# Altium footprint library WANGYU92100PcbLib.PcbLib: 392 footprints (part 10 of 25)
Each footprint in its own frame and in the unit in brackets; x right, y up, seen from the top. Pads: shape width x height; smd on the part's side, far side on the other; paste and mask are expansions set on the pad; w line width, h text height; cw(c..) or ccw(c..) is an arc to the next point about the centre after c.
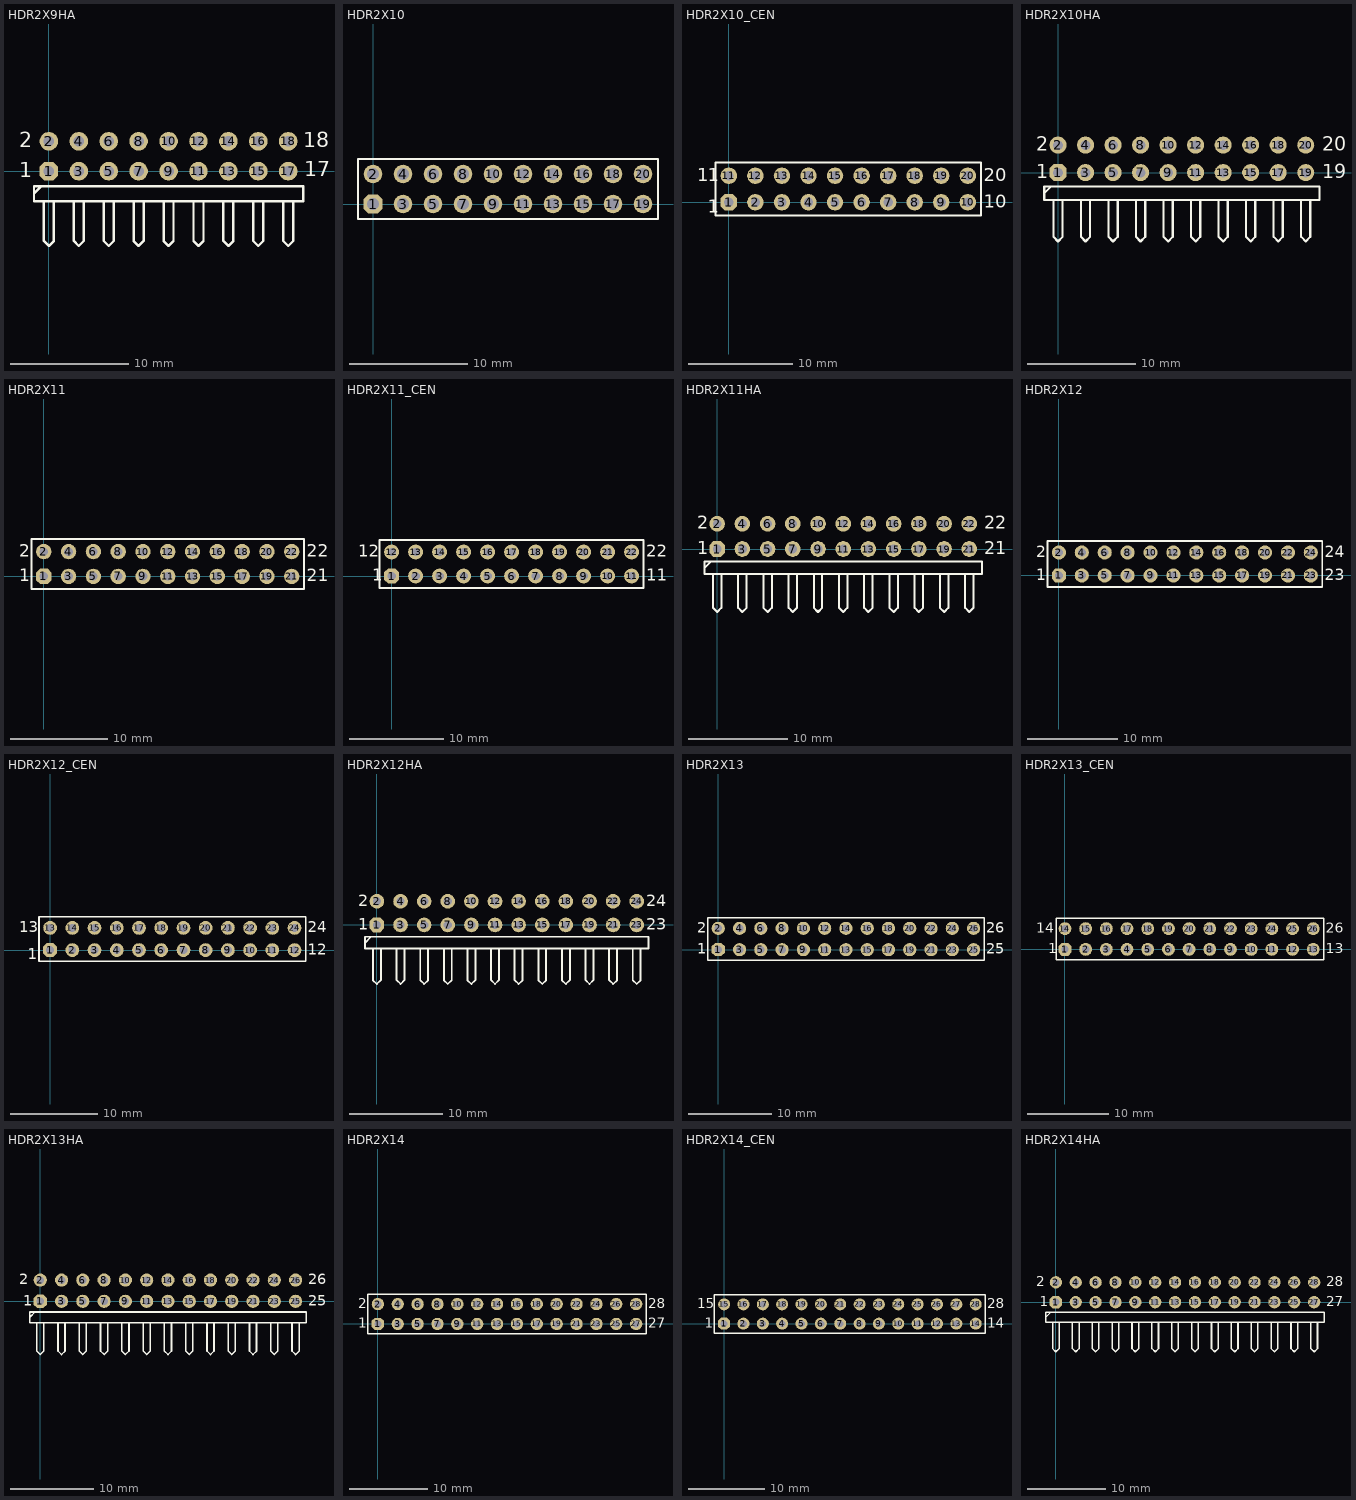
[diagram p9: the footprints below, top view; thin cyan lines are the x and y axes]

## HDR2X9HA [mil]
pads (18):
  oct 62x62 hole 35: 1(0,0)
  round 62 hole 35: 2(0,100) 3(100,0) 4(100,100) 5(200,0) 6(200,100) 7(300,0) 8(300,100) 9(400,0) 10(400,100) 11(500,0) 12(500,100) 13(600,0) 14(600,100) 15(700,0) 16(700,100) 17(800,0) 18(800,100)
Top Overlay:
  lines w8: -50,-75 -25,-50 ; -16.67,-100 -16.67,-233.33 0,-250 16.67,-233.33 16.67,-100 ; 83.33,-100 83.33,-233.33 100,-250 116.67,-233.33 116.67,-100 ; 183.33,-100 183.33,-233.33 200,-250 216.67,-233.33 216.67,-100 ; 283.33,-100 283.33,-233.33 300,-250 316.67,-233.33 316.67,-100 ; 383.33,-100 383.33,-233.33 400,-250 416.67,-233.33 416.67,-100 ; 483.33,-100 483.33,-233.33 500,-250 516.67,-233.33 516.67,-100 ; 583.33,-100 583.33,-233.33 600,-250 616.67,-233.33 616.67,-100 ; 683.33,-100 683.33,-233.33 700,-250 716.67,-233.33 716.67,-100 ; 783.33,-100 783.33,-233.33 800,-250 816.67,-233.33 816.67,-100 ; -50,-100 -50,-50 850,-50 850,-100 -50,-100
  text "1" at -100,-20 h50
  text "17" at 852.91,-17.31 h50
  text "18" at 850.11,80 h50
  text "2" at -100,80 h50

## HDR2X10 [mil]
pads (20):
  oct 62x62 hole 40: 1(0,0)
  round 62 hole 40: 2(0,100) 3(100,0) 4(100,100) 5(200,0) 6(200,100) 7(300,0) 8(300,100) 9(400,0) 10(400,100) 11(500,0) 12(500,100) 13(600,0) 14(600,100) 15(700,0) 16(700,100) 17(800,0) 18(800,100) 19(900,0) 20(900,100)
Top Overlay:
  lines w8: -50,-50 -50,150 25,150 950,150 950,-50 25,-50 -50,-50

## HDR2X10_CEN [mil]
pads (20):
  oct 62x62 hole 35: 1(0,0)
  round 62 hole 35: 2(100,0) 3(200,0) 4(300,0) 5(400,0) 6(500,0) 7(600,0) 8(700,0) 9(800,0) 10(900,0) 11(0,100) 12(100,100) 13(200,100) 14(300,100) 15(400,100) 16(500,100) 17(600,100) 18(700,100) 19(800,100) 20(900,100)
Top Overlay:
  lines w8: -50,-50 -50,150 950,150 950,-50 -50,-50
  text "20" at 960,80 h50
  text "10" at 960,-20 h50
  text "1" at -80,80 h50
  text "1" at -120,80 h50
  text "1" at -80,-40 h50

## HDR2X10HA [mil]
pads (20):
  oct 62x62 hole 35: 1(0,0)
  round 62 hole 35: 2(0,100) 3(100,0) 4(100,100) 5(200,0) 6(200,100) 7(300,0) 8(300,100) 9(400,0) 10(400,100) 11(500,0) 12(500,100) 13(600,0) 14(600,100) 15(700,0) 16(700,100) 17(800,0) 18(800,100) 19(900,0) 20(900,100)
Top Overlay:
  lines w8: -50,-75 -25,-50 ; -16.67,-100 -16.67,-233.33 0,-250 16.67,-233.33 16.67,-100 ; 83.33,-100 83.33,-233.33 100,-250 116.67,-233.33 116.67,-100 ; 183.33,-100 183.33,-233.33 200,-250 216.67,-233.33 216.67,-100 ; 283.33,-100 283.33,-233.33 300,-250 316.67,-233.33 316.67,-100 ; 383.33,-100 383.33,-233.33 400,-250 416.67,-233.33 416.67,-100 ; 483.33,-100 483.33,-233.33 500,-250 516.67,-233.33 516.67,-100 ; 583.33,-100 583.33,-233.33 600,-250 616.67,-233.33 616.67,-100 ; 683.33,-100 683.33,-233.33 700,-250 716.67,-233.33 716.67,-100 ; 783.33,-100 783.33,-233.33 800,-250 816.67,-233.33 816.67,-100 ; 883.33,-100 883.33,-233.33 900,-250 916.67,-233.33 916.67,-100 ; -50,-100 -50,-50 950,-50 950,-100 -50,-100
  text "1" at -80,-20 h50
  text "2" at -80,80 h50
  text "19" at 960,-20 h50
  text "20" at 960,80 h50

## HDR2X11 [mil]
pads (22):
  oct 62x62 hole 35: 1(0,0)
  round 62 hole 35: 2(0,100) 3(100,0) 4(100,100) 5(200,0) 6(200,100) 7(300,0) 8(300,100) 9(400,0) 10(400,100) 11(500,0) 12(500,100) 13(600,0) 14(600,100) 15(700,0) 16(700,100) 17(800,0) 18(800,100) 19(900,0) 20(900,100) 21(1000,0) 22(1000,100)
Top Overlay:
  lines w8: -50,-50 -50,150 1050,150 1050,-50 -50,-50
  text "1" at -100,-20 h50
  text "2" at -100,80 h50
  text "21" at 1060,-20 h50
  text "22" at 1060,80 h50

## HDR2X11_CEN [mil]
pads (22):
  oct 62x62 hole 35: 1(0,0)
  round 62 hole 35: 2(100,0) 3(200,0) 4(300,0) 5(400,0) 6(500,0) 7(600,0) 8(700,0) 9(800,0) 10(900,0) 11(1000,0) 12(0,100) 13(100,100) 14(200,100) 15(300,100) 16(400,100) 17(500,100) 18(600,100) 19(700,100) 20(800,100) 21(900,100) 22(1000,100)
Top Overlay:
  lines w8: -50,-50 -50,150 1050,150 1050,-50 -50,-50
  text "1" at -80,-20 h50
  text "12" at -140,80 h50
  text "11" at 1060,-20 h50
  text "22" at 1060,80 h50

## HDR2X11HA [mil]
pads (22):
  oct 62x62 hole 35: 1(0,0)
  round 62 hole 35: 2(0,100) 3(100,0) 4(100,100) 5(200,0) 6(200,100) 7(300,0) 8(300,100) 9(400,0) 10(400,100) 11(500,0) 12(500,100) 13(600,0) 14(600,100) 15(700,0) 16(700,100) 17(800,0) 18(800,100) 19(900,0) 20(900,100) 21(1000,0) 22(1000,100)
Top Overlay:
  lines w8: -50,-75 -25,-50 ; -16.67,-100 -16.67,-233.33 0,-250 16.67,-233.33 16.67,-100 ; 83.33,-100 83.33,-233.33 100,-250 116.67,-233.33 116.67,-100 ; 183.33,-100 183.33,-233.33 200,-250 216.67,-233.33 216.67,-100 ; 283.33,-100 283.33,-233.33 300,-250 316.67,-233.33 316.67,-100 ; 383.33,-100 383.33,-233.33 400,-250 416.67,-233.33 416.67,-100 ; 483.33,-100 483.33,-233.33 500,-250 516.67,-233.33 516.67,-100 ; 583.33,-100 583.33,-233.33 600,-250 616.67,-233.33 616.67,-100 ; 683.33,-100 683.33,-233.33 700,-250 716.67,-233.33 716.67,-100 ; 783.33,-100 783.33,-233.33 800,-250 816.67,-233.33 816.67,-100 ; 883.33,-100 883.33,-233.33 900,-250 916.67,-233.33 916.67,-100 ; 983.33,-100 983.33,-233.33 1000,-250 1016.67,-233.33 1016.67,-100 ; -50,-100 1050,-100 1050,-50 -50,-50 -50,-100
  text "2" at -80,80 h50
  text "1" at -80,-20 h50
  text "21" at 1060,-20 h50
  text "22" at 1060,80 h50

## HDR2X12 [mil]
pads (24):
  oct 62x62 hole 35: 1(0,0)
  round 62 hole 35: 2(0,100) 3(100,0) 4(100,100) 5(200,0) 6(200,100) 7(300,0) 8(300,100) 9(400,0) 10(400,100) 11(500,0) 12(500,100) 13(600,0) 14(600,100) 15(700,0) 16(700,100) 17(800,0) 18(800,100) 19(900,0) 20(900,100) 21(1000,0) 22(1000,100) 23(1100,0) 24(1100,100)
Top Overlay:
  lines w8: -50,-50 1150,-50 1150,150 -50,150 -50,-50
  text "24" at 1160,80 h50
  text "23" at 1160,-20 h50
  text "2" at -100,80 h50
  text "1" at -100,-20 h50

## HDR2X12_CEN [mil]
pads (24):
  oct 62x62 hole 35: 1(0,0)
  round 62 hole 35: 2(100,0) 3(200,0) 4(300,0) 5(400,0) 6(500,0) 7(600,0) 8(700,0) 9(800,0) 10(900,0) 11(1000,0) 12(1100,0) 13(0,100) 14(100,100) 15(200,100) 16(300,100) 17(400,100) 18(500,100) 19(600,100) 20(700,100) 21(800,100) 22(900,100) 23(1000,100) 24(1100,100)
Top Overlay:
  lines w8: -50,-50 -50,150 1150,150 1150,-50 -50,-50
  text "24" at 1160,80 h50
  text "12" at 1160,-20 h50
  text "13" at -140,80 h50
  text "1" at -100,-40 h50

## HDR2X12HA [mil]
pads (24):
  oct 62x62 hole 35: 1(0,0)
  round 62 hole 35: 2(0,100) 3(100,0) 4(100,100) 5(200,0) 6(200,100) 7(300,0) 8(300,100) 9(400,0) 10(400,100) 11(500,0) 12(500,100) 13(600,0) 14(600,100) 15(700,0) 16(700,100) 17(800,0) 18(800,100) 19(900,0) 20(900,100) 21(1000,0) 22(1000,100) 23(1100,0) 24(1100,100)
Top Overlay:
  lines w8: -50,-75 -25,-50 ; -16.67,-100 -16.67,-233.33 0,-250 16.67,-233.33 16.67,-100 ; 83.33,-100 83.33,-233.33 100,-250 116.67,-233.33 116.67,-100 ; 183.33,-100 183.33,-233.33 200,-250 216.67,-233.33 216.67,-100 ; 283.33,-100 283.33,-233.33 300,-250 316.67,-233.33 316.67,-100 ; 383.33,-100 383.33,-233.33 400,-250 416.67,-233.33 416.67,-100 ; 483.33,-100 483.33,-233.33 500,-250 516.67,-233.33 516.67,-100 ; 583.33,-100 583.33,-233.33 600,-250 616.67,-233.33 616.67,-100 ; 683.33,-100 683.33,-233.33 700,-250 716.67,-233.33 716.67,-100 ; 783.33,-100 783.33,-233.33 800,-250 816.67,-233.33 816.67,-100 ; 883.33,-100 883.33,-233.33 900,-250 916.67,-233.33 916.67,-100 ; 983.33,-100 983.33,-233.33 1000,-250 1016.67,-233.33 1016.67,-100 ; 1083.33,-100 1083.33,-233.33 1100,-250 1116.67,-233.33 1116.67,-100 ; -50,-100 1150,-100 1150,-50 -50,-50 -50,-100
  text "1" at -80,-20 h50
  text "2" at -80,80 h50
  text "23" at 1140,-20 h50
  text "24" at 1140,80 h50

## HDR2X13 [mil]
pads (26):
  oct 62x62 hole 35: 1(0,0)
  round 62 hole 35: 2(0,100) 3(100,0) 4(100,100) 5(200,0) 6(200,100) 7(300,0) 8(300,100) 9(400,0) 10(400,100) 11(500,0) 12(500,100) 13(600,0) 14(600,100) 15(700,0) 16(700,100) 17(800,0) 18(800,100) 19(900,0) 20(900,100) 21(1000,0) 22(1000,100) 23(1100,0) 24(1100,100) 25(1200,0) 26(1200,100)
Top Overlay:
  lines w8: -50,-50 -50,150 1250,150 1250,-50 -50,-50
  text "2" at -100,80 h50
  text "1" at -100,-20 h50
  text "25" at 1260,-20 h50
  text "26" at 1260,80 h50

## HDR2X13_CEN [mil]
pads (26):
  oct 62x62 hole 35: 1(0,0)
  round 62 hole 35: 2(100,0) 3(200,0) 4(300,0) 5(400,0) 6(500,0) 7(600,0) 8(700,0) 9(800,0) 10(900,0) 11(1000,0) 12(1100,0) 13(1200,0) 14(0,100) 15(100,100) 16(200,100) 17(300,100) 18(400,100) 19(500,100) 20(600,100) 21(700,100) 22(800,100) 23(900,100) 24(1000,100) 25(1100,100) 26(1200,100)
Top Overlay:
  lines w8: -41.67,-50 1250,-50 1250,150 -41.67,150 -41.67,-50
  text "1" at -80,-20 h50
  text "14" at -140,80 h50
  text "13" at 1260,-20 h50
  text "26" at 1260,80 h50

## HDR2X13HA [mil]
pads (26):
  oct 62x62 hole 35: 1(0,0)
  round 62 hole 35: 2(0,100) 3(100,0) 4(100,100) 5(200,0) 6(200,100) 7(300,0) 8(300,100) 9(400,0) 10(400,100) 11(500,0) 12(500,100) 13(600,0) 14(600,100) 15(700,0) 16(700,100) 17(800,0) 18(800,100) 19(900,0) 20(900,100) 21(1000,0) 22(1000,100) 23(1100,0) 24(1100,100) 25(1200,0) 26(1200,100)
Top Overlay:
  lines w8: -50,-75 -25,-50 ; -16.67,-100 -16.67,-233.33 0,-250 16.67,-233.33 16.67,-100 ; 83.33,-100 83.33,-233.33 100,-250 116.67,-233.33 116.67,-100 ; 183.33,-100 183.33,-233.33 200,-250 216.67,-233.33 216.67,-100 ; 283.33,-100 283.33,-233.33 300,-250 316.67,-233.33 316.67,-100 ; 383.33,-100 383.33,-233.33 400,-250 416.67,-233.33 416.67,-100 ; 483.33,-100 483.33,-233.33 500,-250 516.67,-233.33 516.67,-100 ; 583.33,-100 583.33,-233.33 600,-250 616.67,-233.33 616.67,-100 ; 683.33,-100 683.33,-233.33 700,-250 716.67,-233.33 716.67,-100 ; 783.33,-100 783.33,-233.33 800,-250 816.67,-233.33 816.67,-100 ; 883.33,-100 883.33,-233.33 900,-250 916.67,-233.33 916.67,-100 ; 983.33,-100 983.33,-233.33 1000,-250 1016.67,-233.33 1016.67,-100 ; 1083.33,-100 1083.33,-233.33 1100,-250 1116.67,-233.33 1116.67,-100 ; 1183.33,-100 1183.33,-233.33 1200,-250 1216.67,-233.33 1216.67,-100 ; -50,-100 1250,-100 1250,-50 -50,-50 -50,-100
  text "2" at -100,80 h50
  text "1" at -80,-20 h50
  text "25" at 1260,-20 h50
  text "26" at 1260,80 h50

## HDR2X14 [mil]
pads (28):
  oct 62x62 hole 35: 1(0,0)
  round 62 hole 35: 2(0,100) 3(100,0) 4(100,100) 5(200,0) 6(200,100) 7(300,0) 8(300,100) 9(400,0) 10(400,100) 11(500,0) 12(500,100) 13(600,0) 14(600,100) 15(700,0) 16(700,100) 17(800,0) 18(800,100) 19(900,0) 20(900,100) 21(1000,0) 22(1000,100) 23(1100,0) 24(1100,100) 25(1200,0) 26(1200,100) 27(1300,0) 28(1300,100)
Top Overlay:
  lines w8: -50,-50 -50,150 1350,150 1350,-50 -50,-50
  text "2" at -100,80 h50
  text "1" at -100,-20 h50
  text "27" at 1360,-20 h50
  text "28" at 1360,80 h50

## HDR2X14_CEN [mil]
pads (28):
  oct 62x62 hole 35: 1(0,0)
  round 62 hole 35: 2(100,0) 3(200,0) 4(300,0) 5(400,0) 6(500,0) 7(600,0) 8(700,0) 9(800,0) 10(900,0) 11(1000,0) 12(1100,0) 13(1200,0) 14(1300,0) 15(0,100) 16(100,100) 17(200,100) 18(300,100) 19(400,100) 20(500,100) 21(600,100) 22(700,100) 23(800,100) 24(900,100) 25(1000,100) 26(1100,100) 27(1200,100) 28(1300,100)
Top Overlay:
  lines w8: -50,-50 -50,150 1350,150 1350,-50 -50,-50
  text "28" at 1360,80 h50
  text "14" at 1360,-20 h50
  text "1" at -100,-20 h50
  text "15" at -140,80 h50

## HDR2X14HA [mil]
pads (28):
  oct 62x62 hole 35: 1(0,0)
  round 62 hole 35: 2(0,100) 3(100,0) 4(100,100) 5(200,0) 6(200,100) 7(300,0) 8(300,100) 9(400,0) 10(400,100) 11(500,0) 12(500,100) 13(600,0) 14(600,100) 15(700,0) 16(700,100) 17(800,0) 18(800,100) 19(900,0) 20(900,100) 21(1000,0) 22(1000,100) 23(1100,0) 24(1100,100) 25(1200,0) 26(1200,100) 27(1300,0) 28(1300,100)
Top Overlay:
  lines w8: -50,-75 -25,-50 ; -16.67,-100 -16.67,-233.33 0,-250 16.67,-233.33 16.67,-100 ; 83.33,-100 83.33,-233.33 100,-250 116.67,-233.33 116.67,-100 ; 183.33,-100 183.33,-233.33 200,-250 216.67,-233.33 216.67,-100 ; 283.33,-100 283.33,-233.33 300,-250 316.67,-233.33 316.67,-100 ; 383.33,-100 383.33,-233.33 400,-250 416.67,-233.33 416.67,-100 ; 483.33,-100 483.33,-233.33 500,-250 516.67,-233.33 516.67,-100 ; 583.33,-100 583.33,-233.33 600,-250 616.67,-233.33 616.67,-100 ; 683.33,-100 683.33,-233.33 700,-250 716.67,-233.33 716.67,-100 ; 783.33,-100 783.33,-233.33 800,-250 816.67,-233.33 816.67,-100 ; 883.33,-100 883.33,-233.33 900,-250 916.67,-233.33 916.67,-100 ; 983.33,-100 983.33,-233.33 1000,-250 1016.67,-233.33 1016.67,-100 ; 1083.33,-100 1083.33,-233.33 1100,-250 1116.67,-233.33 1116.67,-100 ; 1183.33,-100 1183.33,-233.33 1200,-250 1216.67,-233.33 1216.67,-100 ; 1283.33,-100 1283.33,-233.33 1300,-250 1316.67,-233.33 1316.67,-100 ; -50,-100 1350,-100 1350,-50 -50,-50 -50,-100
  text "2" at -100,80 h50
  text "1" at -80,-20 h50
  text "27" at 1360,-20 h50
  text "28" at 1360,80 h50